# Altium integrated library OPA551UA.IntLib: 1 symbol
Pins are listed as number, name and electrical type; pins without a type are passive.

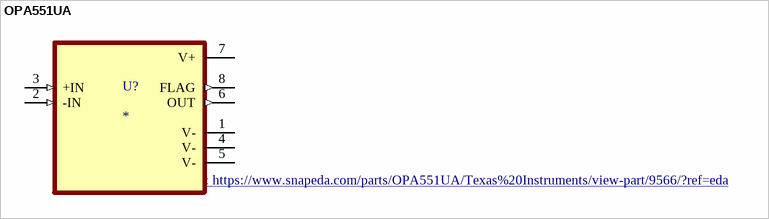
[diagram p0: symbol OPA551UA]

## OPA551UA
designator U?
High-current (380mA Typ), high-voltage (60V), operational amplifier 8-SOIC -40 to 125; MF: Texas Instruments; MP: OPA551UA; SnapEDA_Link: https://www.snapeda.com/parts/OPA551UA/Texas%20Instruments/view-part/9566/?ref=snap; Price: None; Package: SOIC-8 Texas Instruments; Value: *; Availability: Unavailable; Purchase-URL: https://pricing.snapeda.com/search/part/OPA551UA/?ref=eda; Check_prices: https://www.snapeda.com/parts/OPA551UA/Texas%20Instruments/view-part/9566/?ref=eda
footprint SOIC127P599X175-8N
pins: 1 V- (power), 2 -IN (in), 3 +IN (in), 4 V- (power), 5 V- (power), 6 OUT (out), 7 V+ (power), 8 FLAG (out)